# EAGLE library part PIC16F887 (library pic16f88x)
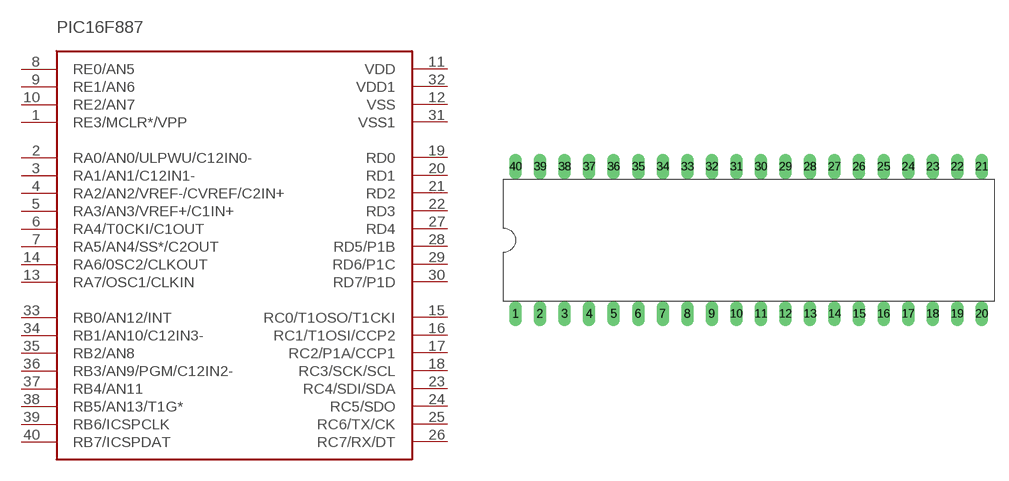
[diagram p4: symbol with the pads of 16F887; footprint 16F887]

Designator prefix -

## PIC16F887  [16F887]
1  RE3/MCLR*/VPP
2  RA0/AN0/ULPWU/C12IN0-
3  RA1/AN1/C12IN1-
4  RA2/AN2/VREF-/CVREF/C2IN+
5  RA3/AN3/VREF+/C1IN+
6  RA4/T0CKI/C1OUT
7  RA5/AN4/SS*/C2OUT
8  RE0/AN5
9  RE1/AN6
10  RE2/AN7
11  VDD
12  VSS
13  RA7/OSC1/CLKIN
14  RA6/0SC2/CLKOUT
15  RC0/T1OSO/T1CKI
16  RC1/T1OSI/CCP2
17  RC2/P1A/CCP1
18  RC3/SCK/SCL
19  RD0
20  RD1
21  RD2
22  RD3
23  RC4/SDI/SDA
24  RC5/SDO
25  RC6/TX/CK
26  RC7/RX/DT
27  RD4
28  RD5/P1B
29  RD6/P1C
30  RD7/P1D
31  VSS1
32  VDD1
33  RB0/AN12/INT
34  RB1/AN10/C12IN3-
35  RB2/AN8
36  RB3/AN9/PGM/C12IN2-
37  RB4/AN11
38  RB5/AN13/T1G*
39  RB6/ICSPCLK
40  RB7/ICSPDAT

## Footprint 16F887 (pad centres in mm)
drill 0.8 long: 1 -24.13,-6.35; 2 -21.59,-6.35; 3 -19.05,-6.35; 4 -16.51,-6.35; 5 -13.97,-6.35; 6 -11.43,-6.35; 7 -8.89,-6.35; 8 -6.35,-6.35; 9 -3.81,-6.35; 10 -1.27,-6.35; 11 1.27,-6.35; 12 3.81,-6.35; 13 6.35,-6.35; 14 8.89,-6.35; 15 11.43,-6.35; 16 13.97,-6.35; 17 16.51,-6.35; 18 19.05,-6.35; 19 21.59,-6.35; 20 24.13,-6.35; 21 24.13,8.89; 22 21.59,8.89; 23 19.05,8.89; 24 16.51,8.89; 25 13.97,8.89; 26 11.43,8.89; 27 8.89,8.89; 28 6.35,8.89; 29 3.81,8.89; 30 1.27,8.89; 31 -1.27,8.89; 32 -3.81,8.89; 33 -6.35,8.89; 34 -8.89,8.89; 35 -11.43,8.89; 36 -13.97,8.89; 37 -16.51,8.89; 38 -19.05,8.89; 39 -21.59,8.89; 40 -24.13,8.89